# Altium footprint library GenCryst.PcbLib: 28 footprints (part 2 of 2)
Each footprint in its own frame and in the unit in brackets; x right, y up, seen from the top. Pads: shape width x height; smd on the part's side, far side on the other; paste and mask are expansions set on the pad; w line width, h text height; cw(c..) or ccw(c..) is an arc to the next point about the centre after c.
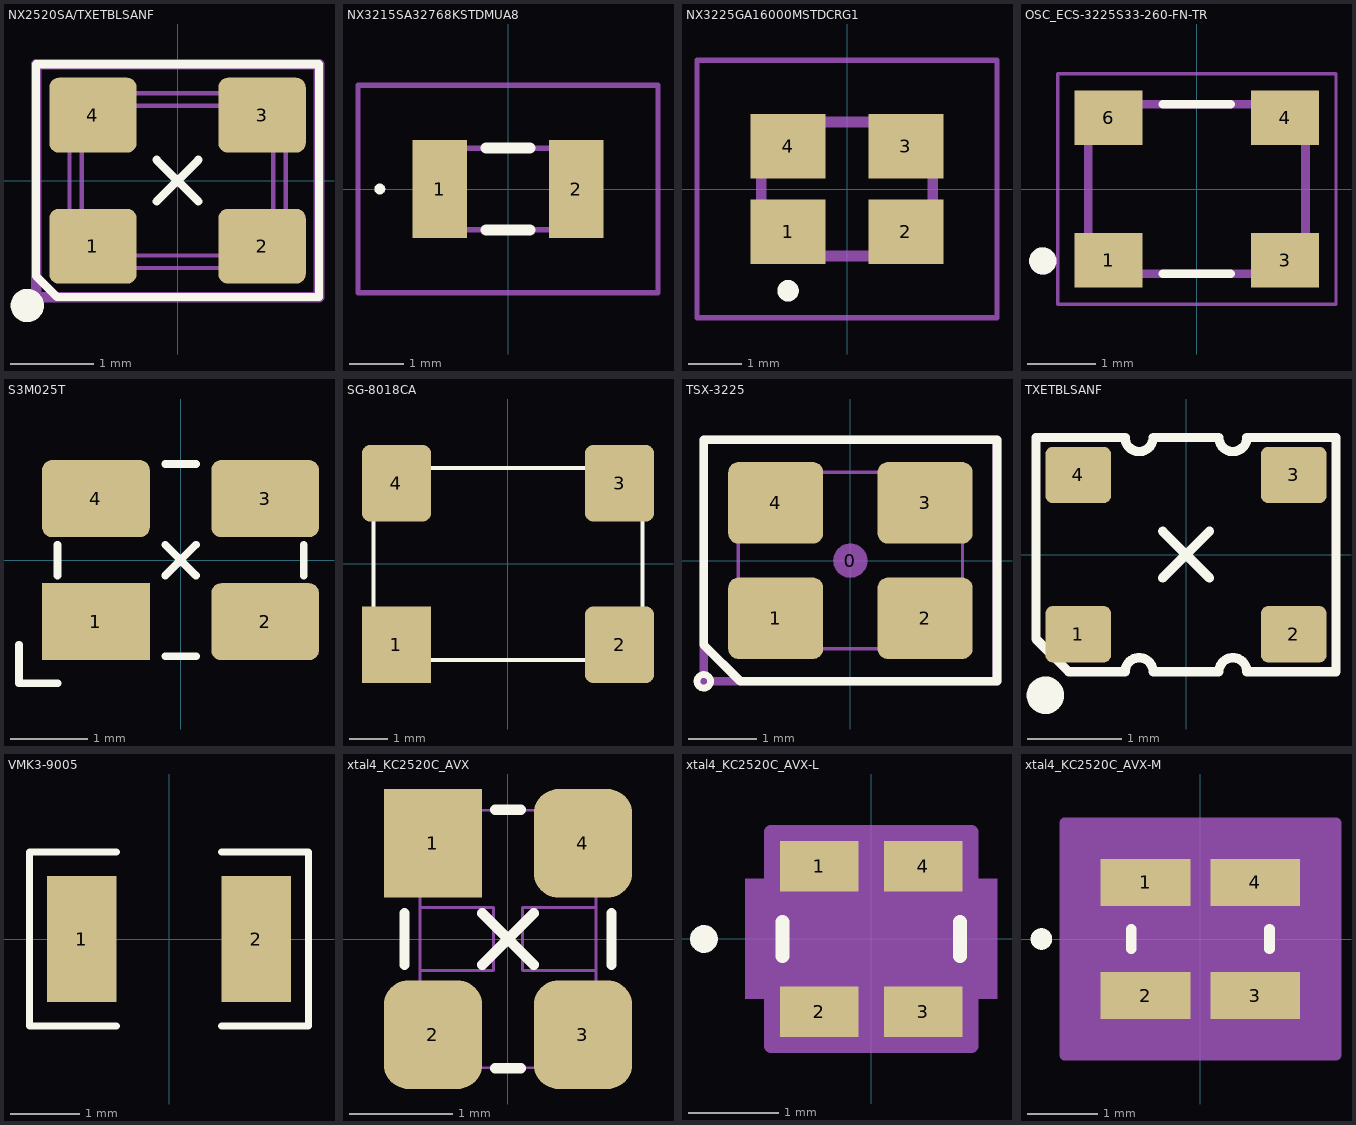
[diagram p1: the footprints below, top view; thin cyan lines are the x and y axes]

## NX2520SA/TXETBLSANF [mm] "SMD Crystal 4-lead leadless package"
height 0.55
pads (4):
  rrect25% 1.05x0.9 smd mask+0.075: 1(-1.016,-0.787) 2(1.016,-0.787) 3(1.016,0.787) 4(-1.016,0.787)
Top Overlay:
  circle w0.2: c-1.805,-1.5 r0.1
  lines w0.1: -0.25,-0.25 0.25,0.25 ; -0.25,0.25 0.25,-0.25 ; -1.7,-1.145 -1.448,-1.397 1.7,-1.397 1.7,1.4 -1.7,1.4 -1.7,-1.145
Mechanical 13:
  lines w0.05: -1.3,-0.87 cw(c-1.3,-1.05) -1.12,-1.05 1.12,-1.05 cw(c1.3,-1.05) 1.3,-0.87 1.3,0.87 cw(c1.3,1.05) 1.12,1.05 -1.12,1.05 cw(c-1.3,1.05) -1.3,0.87 -1.3,-0.87 ; -1.15,-0.75 ccw(c-1,-0.75) -1,-0.9 1,-0.9 ccw(c1,-0.75) 1.15,-0.75 1.15,0.75 ccw(c1,0.75) 1,0.9 -1,0.9 ccw(c-1,0.75) -1.15,0.75 -1.15,-0.75
Mechanical 15:
  lines w0.127: -1.7,-1.4 -1.7,1.4 1.7,1.4 1.7,-1.4 -1.7,-1.4
3D body "Crystal NDK NX2520SA series.STEP": height 0.55, standoff 0, extent -1.3,-1.05 1.3,1.05

## NX3215SA32768KSTDMUA8 [mm]
pads (2):
  rect 1x1.8 smd: 1(-1.25,0) 2(1.25,0)
Top Overlay:
  lines w0.1: -2.4,0 ccw(c-2.35,0) -2.3,0 ccw(c-2.35,0) -2.4,0
  lines w0.2: -0.4,-0.75 0.4,-0.75 ; -0.4,0.75 0.4,0.75
Mechanical 13:
  lines w0.1: -1.6,-0.75 1.6,-0.75 1.6,0.75 -1.6,0.75 -1.6,-0.75
Mechanical 15:
  lines w0.1: -2.75,-1.9 2.75,-1.9 2.75,1.9 -2.75,1.9 -2.75,-1.9
3D body "NX3215SA-32.768K-STD-MUA-8.stp": height 0.8, standoff 0, extent -1.6,-0.75 1.6,0.75

## NX3225GA16000MSTDCRG1 [mm]
pads (4):
  rect 1.4x1.2 smd: 1(-1.1,-0.8) 2(1.1,-0.8) 3(1.1,0.8) 4(-1.1,0.8)
Top Overlay:
  lines w0.2: -1.2,-1.9 ccw(c-1.1,-1.9) -1,-1.9 ccw(c-1.1,-1.9) -1.2,-1.9
Mechanical 13:
  lines w0.2: -1.6,-1.25 1.6,-1.25 1.6,1.25 -1.6,1.25 -1.6,-1.25
Mechanical 15:
  lines w0.1: -2.8,-2.4 2.8,-2.4 2.8,2.4 -2.8,2.4 -2.8,-2.4
3D body "NX3225GA-16.000M-STD-CRG-1.stp": height 1, standoff 0, extent -1.68,-1.28 1.68,1.28

## OSC_ECS-3225S33-260-FN-TR [mm]
pads (4):
  rect 1x0.8 smd: 1(-1.3,-1.05) 3(1.3,-1.05) 4(1.3,1.05) 6(-1.3,1.05)
Top Overlay:
  circle w0.2: c-2.27,-1.06 r0.1
  lines w0.127: -0.5,-1.25 0.5,-1.25 ; -0.5,1.25 0.5,1.25
Mechanical 13:
  circle w0.2: c-2.27,-1.06 r0.1
  lines w0.127: -1.6,-1.25 -1.6,1.25 1.6,1.25 1.6,-1.25 -1.6,-1.25
Mechanical 15:
  lines w0.05: -2.05,-1.7 2.05,-1.7 2.05,1.7 -2.05,1.7 -2.05,-1.7
3D body "step_temp.STEP": height 1, standoff 0, extent -1.6,-1.25 1.6,1.25

## S3M025T [mm]
pads (4):
  rect 1.4x1 smd mask+0.075: 1(-1.1,-0.8)
  rrect25% 1.4x1 smd mask+0.075: 2(1.1,-0.8) 3(1.1,0.8) 4(-1.1,0.8)
Top Overlay:
  lines w0.1: -2.1,-1.1 -2.1,-1.6 -1.6,-1.6 ; -1.6,-0.2 -1.6,0.2 ; -0.2,-1.25 0.2,-1.25 ; -0.2,-0.2 0.2,0.2 ; -0.2,0.2 0.2,-0.2 ; -0.2,1.25 0.2,1.25 0,1.25 ; 1.6,-0.2 1.6,0.2
3D body: height 1.2, standoff 0, extent -1.6,-1.25 1.6,1.25

## SG-8018CA [mm]
height 1.3
pads (4):
  rect 1.8x2 smd mask+0.075: 1(-2.9,-2.1)
  rrect25% 1.8x2 smd mask+0.075: 2(2.9,-2.1) 3(2.9,2.1) 4(-2.9,2.1)
Top Overlay:
  lines w0.1: -3.5,-1.9 -3.5,2.5 3.5,2.5 3.5,-2.5 -2.9,-2.5 -3.5,-1.9
3D body "User Library-ECS-3951.step": height 1.7, standoff 0, extent -3.5,-2.501 3.5,2.501

## TSX-3225 [mm]
pads (5):
  round 0.508 on Mech15: 0(0,0)
  rrect25% 1.4x1.2 smd: 1(-1.1,-0.85) 2(1.1,-0.85) 3(1.1,0.85) 4(-1.1,0.85)
Top Overlay:
  circle w0.1: c-2.159,-1.778 r0.1
  lines w0.127: -2.159,-1.241 -2.159,1.778 2.159,1.778 2.159,-1.778 -1.622,-1.778 -2.159,-1.241
Mechanical 13:
  lines w0.05: -1.65,-1.143 -1.493,-1.3 1.493,-1.3 1.65,-1.143 1.65,1.144 1.494,1.3 -1.493,1.3 -1.65,1.143 -1.65,-1.143
Mechanical 15:
  lines w0.127: -2.159,-1.778 2.159,-1.778 2.159,1.778 -2.159,1.778 -2.159,-1.778
3D body "Crystal TXC Corp 7M series.STEP": height 0.8, standoff 0, extent -1.65,-1.3 1.65,1.3

## TXETBLSANF [mm]
height 0.9
pads (4):
  rrect25% 0.7x0.6 smd mask+0.075: 1(-1.15,-0.85) 2(1.15,-0.85) 3(1.15,0.85) 4(-1.15,0.85)
Top Overlay:
  circle w0.2: c-1.5,-1.5 r0.1
  lines w0.1: -0.25,-0.25 0.25,0.25 ; -0.25,0.25 0.25,-0.25 ; -1.6,-0.9 -1.25,-1.25 -0.65,-1.25 cw(c-0.5,-1.25) -0.35,-1.25 0.35,-1.25 cw(c0.5,-1.25) 0.65,-1.25 1.6,-1.25 1.6,1.25 0.65,1.25 cw(c0.5,1.25) 0.35,1.25 -0.35,1.25 cw(c-0.5,1.25) -0.65,1.25 -1.6,1.25 -1.6,-0.9
3D body "Crystal NDK NX2520SA series.STEP": height 0.55, standoff 0, extent -1.3,-1.05 1.3,1.05

## VMK3-9005 [mm]
pads (2):
  rect 1x1.8 smd: 1(-1.25,0) 2(1.25,0)
Top Overlay:
  lines w0.1: -0.75,-1.25 -2,-1.25 -2,1.25 -0.75,1.25 ; 0.75,-1.25 2,-1.25 2,1.25 0.75,1.25
3D body "User Library-Crystal FC-135.STEP": height 0.8, standoff 0, extent -1.6,-0.75 1.6,0.75

## xtal4_KC2520C_AVX [mm]
pads (4):
  rect 0.95x1.05 smd paste+0 mask+0: 1(-0.725,0.925)
  rrect50% 0.95x1.05 smd paste+0 mask+0: 2(-0.725,-0.925) 3(0.725,-0.925) 4(0.725,0.925)
Top Overlay:
  lines w0.1: -1,-0.25 -1,0.25 ; -0.25,-0.25 0.25,0.25 ; -0.25,0.25 0.25,-0.25 ; -0.125,-1.25 0.125,-1.25 ; -0.125,1.25 0.125,1.25 ; 1,-0.25 1,0.25
Mechanical 13:
  lines w0.025: -0.851,-1.245 0.851,-1.245 0.851,1.245 -0.851,1.245 -0.851,-1.245 ; -0.851,-0.305 -0.851,0.305 -0.14,0.305 -0.14,-0.305 -0.851,-0.305 ; 0.14,-0.305 0.14,0.305 0.851,0.305 0.851,-0.305 0.14,-0.305
3D body "xtal4_KC2520C_AVX.step": height 0.71, standoff 0, extent -0.851,-1.13 0.851,1.13

## xtal4_KC2520C_AVX-L [mil]
pads (4):
  rect 34x22 smd paste+0 mask+0: 1(-22.5,31.5) 2(-22.5,-31.5) 3(22.5,-31.5) 4(22.5,31.5)
Top Overlay:
  circle w6: c-72.5,0 r3
  lines w6: -38.5,-7.4 -38.5,7.4 ; 38.5,-7.4 38.5,7.4
Mechanical 5:
  region: 54.5,-26 -54.5,-26 -54.5,26 54.5,26
Mechanical 13:
  circle w0: c-17.5,31.5 r3
  lines w1: -33.5,-49 -33.5,49 33.5,49 33.5,-49 -33.5,-49 ; -33.5,-12 -5.5,-12 -5.5,12 -33.5,12 -33.5,-12 ; 5.5,-12 33.5,-12 33.5,12 5.5,12 5.5,-12
Mechanical 15:
  region: 43.5,-46.5 -43.5,-46.5 -43.5,46.5 43.5,46.5
  lines w6: -43.5,-46.5 43.5,-46.5 43.5,46.5 -43.5,46.5 -43.5,-46.5
3D body "xtal4_KC2520C_AVX.step": height 27.99, standoff 0, extent -33.5,-44.49 33.5,44.49

## xtal4_KC2520C_AVX-M [mil]
pads (4):
  rect 50x26 smd paste+0 mask+0: 1(-30.5,31.5) 2(-30.5,-31.5) 3(30.5,-31.5) 4(30.5,31.5)
Top Overlay:
  circle w6: c-88.5,0 r3
  lines w6: -38.5,-5.4 -38.5,5.4 ; 38.5,-5.4 38.5,5.4
Mechanical 5:
  region: 70.5,-28 -70.5,-28 -70.5,28 70.5,28
Mechanical 13:
  circle w0: c-25.5,31.5 r3
  lines w1: -33.5,-49 33.5,-49 33.5,49 -33.5,49 -33.5,-49 ; -33.5,-12 -33.5,12 -5.5,12 -5.5,-12 -33.5,-12 ; 5.5,-12 5.5,12 33.5,12 33.5,-12 5.5,-12
Mechanical 15:
  region: 75.5,-64.5 -75.5,-64.5 -75.5,64.5 75.5,64.5
  lines w6: -75.5,-64.5 -75.5,64.5 75.5,64.5 75.5,-64.5 -75.5,-64.5
3D body "xtal4_KC2520C_AVX.step": height 27.99, standoff 0, extent -33.5,-44.49 33.5,44.49